# Altium schematic symbol library connectors.SchLib: 3 symbols
Pins are listed as number, name and electrical type; pins without a type are passive.

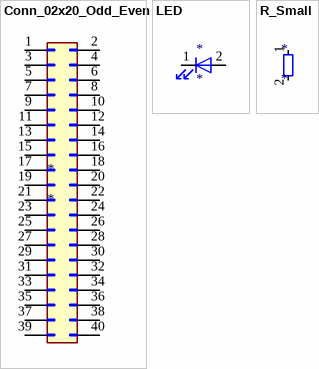
[diagram p0: symbols Conn_02x20_Odd_Even to R_Small]

## Conn_02x20_Odd_Even
designator *
pins: 1 Pin_1, 2 Pin_2, 3 Pin_3, 4 Pin_4, 5 Pin_5, 6 Pin_6, 7 Pin_7, 8 Pin_8, 9 Pin_9, 10 Pin_10, 11 Pin_11, 12 Pin_12, 13 Pin_13, 14 Pin_14, 15 Pin_15, 16 Pin_16, 17 Pin_17, 18 Pin_18, 19 Pin_19, 20 Pin_20, 21 Pin_21, 22 Pin_22, 23 Pin_23, 24 Pin_24, 25 Pin_25, 26 Pin_26, 27 Pin_27, 28 Pin_28, 29 Pin_29, 30 Pin_30, 31 Pin_31, 32 Pin_32, 33 Pin_33, 34 Pin_34, 35 Pin_35, 36 Pin_36, 37 Pin_37, 38 Pin_38, 39 Pin_39, 40 Pin_40

## LED
designator *
pins: 1 K, 2 A

## R_Small
designator *
pins: 1, 2